# Altium schematic symbol library IND 15UH 3.2A 50 MOHM.Schlib: 1 symbol
Pins are listed as number, name and electrical type; pins without a type are passive.

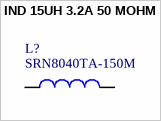
[diagram p0: symbol IND 15UH 3.2A 50 MOHM]

## IND 15UH 3.2A 50 MOHM
designator L?, comment SRN8040TA-150M
15µH Semi-Shielded Wirewound Inductor 2.4A 70mOhm Max Nonstandard
pins: 1, 2